# EAGLE library part 3_18650_HOLDER (library custom)
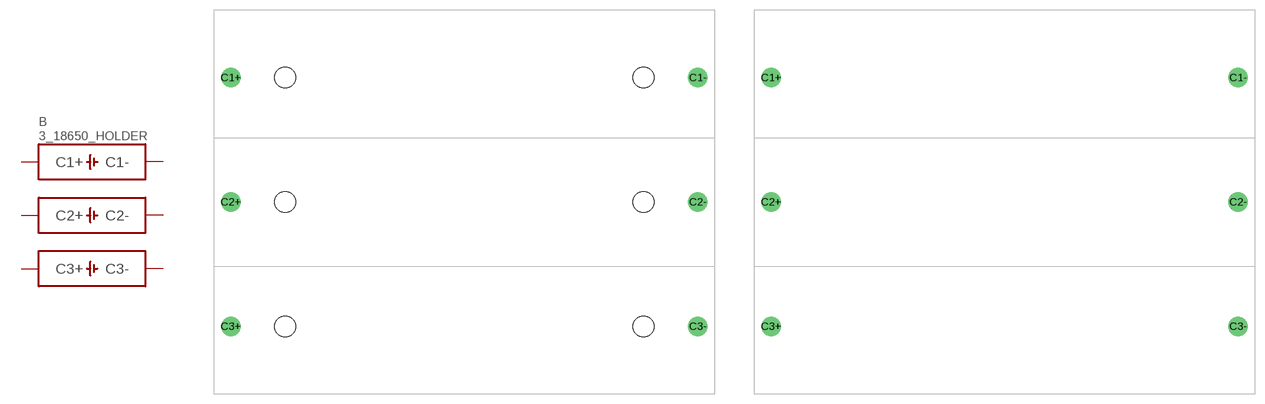
[diagram p130: symbol with the pads of 3S_18650_HOLDER; footprints 3S_18650_HOLDER, 3S_18650_HOLDER_NH]

Designator prefix B

## 3_18650_HOLDERHOLES  [3S_18650_HOLDER]
C1+  C1+
C1-  C1-
C2+  C2+
C2-  C2-
C3+  C3+
C3-  C3-

## 3_18650_HOLDER  [3S_18650_HOLDER_NH]
Pads as for 3S_18650_HOLDER

## Footprint 3S_18650_HOLDER (pad centres in mm)
drill 1.6 pad 3: C1+ -36.25,19.3; C1- 36.25,19.3; C2+ -36.25,0; C2- 36.25,0; C3+ -36.25,-19.3; C3- 36.25,-19.3
hole 3.2 at -27.81,19.3
hole 3.2 at -27.81,0
hole 3.2 at -27.81,-19.3
hole 3.2 at 27.81,-19.3
hole 3.2 at 27.81,0
hole 3.2 at 27.81,19.3

## Footprint 3S_18650_HOLDER_NH (pad centres in mm)
drill 1.6 pad 3: C1+ -36.25,19.3; C1- 36.25,19.3; C2+ -36.25,0; C2- 36.25,0; C3+ -36.25,-19.3; C3- 36.25,-19.3